# Altium footprint library PHOTOINTERRUPTERS_SLOT_TYPE.PcbLib: 1 footprints
Each footprint in its own frame and in the unit in brackets; x right, y up, seen from the top. Pads: shape width x height; smd on the part's side, far side on the other; paste and mask are expansions set on the pad; w line width, h text height; cw(c..) or ccw(c..) is an arc to the next point about the centre after c.
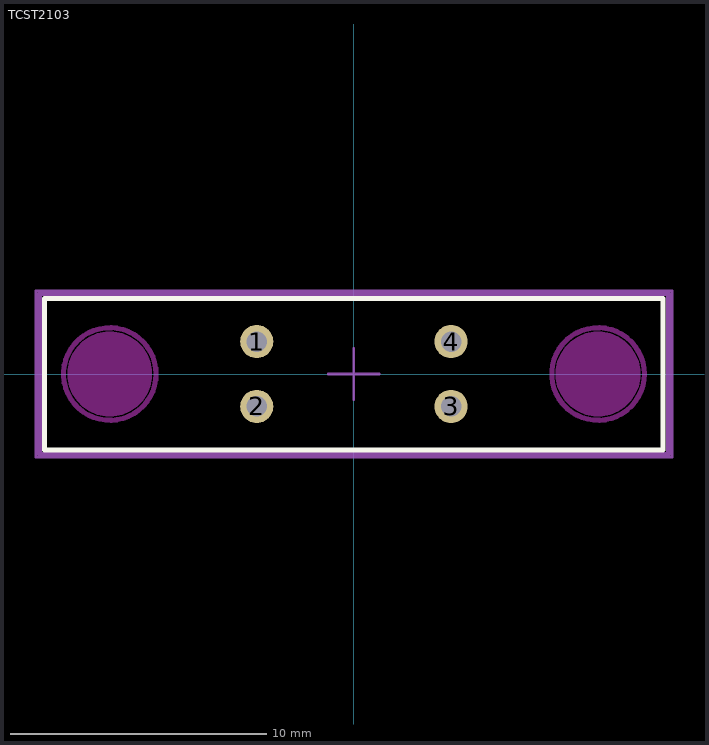
[diagram p0: the footprint, top view; thin cyan lines are the x and y axes]

## TCST2103 [mm] "Optical Sensor Through-Beam 3.1mm Phototransistor Slotted Module, 4-Lead Dual Row"
pads (4):
  round 1.3 hole 0.8: 1(-3.8,1.27) 2(-3.8,-1.27) 3(3.8,-1.27) 4(3.8,1.27)
Top Overlay:
  lines w0.2: -12.1,-2.966 -12.1,2.953 12.098,2.953 12.098,-2.966 -12.1,-2.966
Keep-Out Layer:
  board cut-out: 7.9,0 7.9,-0.163 7.963,-0.481 8.088,-0.782 8.268,-1.052 8.498,-1.282 8.768,-1.462 9.069,-1.587 9.387,-1.65 9.55,-1.65 9.713,-1.65 10.031,-1.587 10.332,-1.462 10.602,-1.282 10.832,-1.052 11.012,-0.782 11.137,-0.481 11.2,-0.163 11.2,0 11.2,0.163 11.137,0.481 11.012,0.782 10.832,1.052 10.602,1.282 10.332,1.462 10.031,1.587 9.713,1.65 9.55,1.65 9.387,1.65 9.069,1.587 8.768,1.462 8.498,1.282 8.268,1.052 8.088,0.782 7.963,0.481 7.9,0.163
  board cut-out: -9.55,-1.65 -9.713,-1.65 -10.031,-1.587 -10.332,-1.462 -10.602,-1.282 -10.832,-1.052 -11.012,-0.782 -11.137,-0.481 -11.2,-0.163 -11.2,0 -11.2,0.163 -11.137,0.481 -11.012,0.782 -10.832,1.052 -10.602,1.282 -10.332,1.462 -10.031,1.587 -9.713,1.65 -9.55,1.65 -9.387,1.65 -9.069,1.587 -8.768,1.462 -8.498,1.282 -8.268,1.052 -8.088,0.782 -7.963,0.481 -7.9,0.163 -7.9,0 -7.9,-0.163 -7.963,-0.481 -8.088,-0.782 -8.268,-1.052 -8.498,-1.282 -8.768,-1.462 -9.069,-1.587 -9.387,-1.65
Keep-Out Layer:
  circle w0.2: c9.55,0 r1.812
  circle w0.2: c-9.55,0 r1.812
Top Assembly:
  lines w0.2: -12.3,-3.15 12.3,-3.15 12.3,3.15 -12.3,3.15 -12.3,-3.15
Top Component Center:
  lines w0.1: -1,0 1,0 ; 0,-1 0,1
Top Component Outline:
  lines w0.2: -12.3,-3.15 12.3,-3.15 12.3,3.15 -12.3,3.15 -12.3,-3.15
Top Courtyard:
  lines w0.1: -12.443,-3.25 -12.443,3.25 12.45,3.25 12.45,-3.25 -12.443,-3.25
Top Designator:
  text ".Designator" at -7.618,-0.508 h1.52
3D body "IC_Vishay_TCST2103_eec.STEP": height 11.1, standoff -7.8, extent -12.25,-3.15 12.25,3.15